# Altium schematic symbol library yu0316-NSC_LDO.SchLib: 2590 symbols (part 43 of 64)
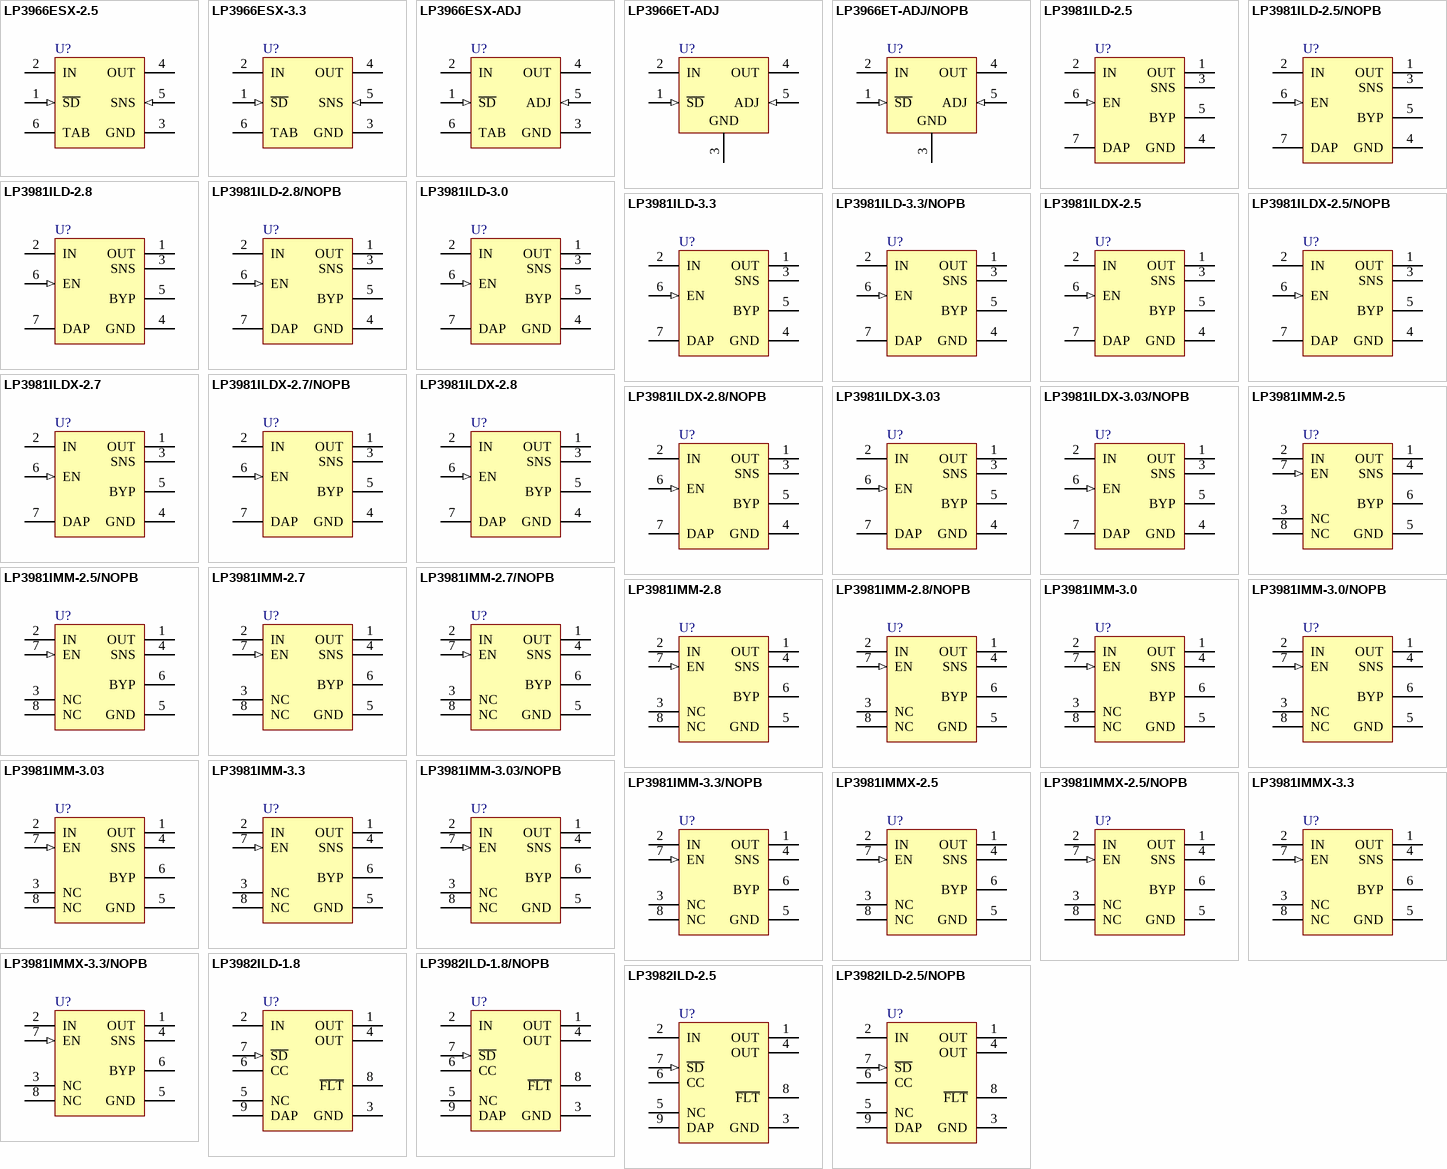
[diagram p107: symbols LP3966ESX-2.5 to LP3982ILD-2.5/NOPB]

## LP3981ILD-3.3/NOPB
designator U?
Micropower, 300mA Ultra Low-Dropout CMOS Voltage Regulator, 6-pin LLP, Pb-Free; PartNumber: LP3981ILD-3.3/NOPB; Manufacturer: National Semiconductor; PackageTopMarking: ZXYTT*LO1XB; PowerWise: N; CompType: LDO IC; Published: 1-Mar-2010; DatasheetVersion: Apr-2005; PackageVersion: revB, Nov-2002; PackageReference: LDC06D; Publisher: Altium Limited; PackageDescription: LLP, Plastic, Dual, 3 x 4 x 0.75mm Body, 6 Lead, 0.8mm Pitch; Supplier 1: Digi-Key; Supplier Part Number 1: LP3981ILD-3.3TR-ND; Supplier 2: Digi-Key; Supplier Part Number 2: LP3981ILD-3.3CT-ND; Supplier 3: Digi-Key; Supplier Part Number 3: LP3981ILD-3.3DKR-ND; Supplier 4: Farnell; Supplier Part Number 4: 1685551; RoHS: Y; PinCount: 6; ComponentLink1Description: LP3981 Datasheet; ComponentLink1URL: http://www.national.com/ds/LP/LP3981.pdf; ComponentLink2Description: LP3981 Web Page; ComponentLink2URL: http://www.national.com/pf/LP/LP3981.html; ComponentLink3Description: LDC06D Package Page; ComponentLink3URL: http://www.national.com/packaging/folders/ldc06d.html
footprint LDC06D (PSON, 6-Leads, Body 3x4 mm, Pitch 0.8mm, NSC Recommended)
pins: 1 OUT (power), 2 IN (power), 3 SNS, 4 GND (power), 5 BYP, 6 EN (in), 7 DAP

## LP3981ILDX-2.5
designator U?
Micropower, 300mA Ultra Low-Dropout CMOS Voltage Regulator, 6-pin LLP; PartNumber: LP3981ILDX-2.5; Manufacturer: National Semiconductor; PackageTopMarking: ZXYTT*LO1UB; PowerWise: N; CompType: LDO IC; Published: 1-Mar-2010; DatasheetVersion: Apr-2005; PackageVersion: revB, Nov-2002; PackageReference: LDC06D; Publisher: Altium Limited; PackageDescription: LLP, Plastic, Dual, 3 x 4 x 0.75mm Body, 6 Lead, 0.8mm Pitch; RoHS: N; PinCount: 6; ComponentLink1Description: LP3981 Datasheet; ComponentLink1URL: http://www.national.com/ds/LP/LP3981.pdf; ComponentLink2Description: LP3981 Web Page; ComponentLink2URL: http://www.national.com/pf/LP/LP3981.html; ComponentLink3Description: LDC06D Package Page; ComponentLink3URL: http://www.national.com/packaging/folders/ldc06d.html
footprint LDC06D (PSON, 6-Leads, Body 3x4 mm, Pitch 0.8mm, NSC Recommended)
pins: 1 OUT (power), 2 IN (power), 3 SNS, 4 GND (power), 5 BYP, 6 EN (in), 7 DAP

## LP3981ILDX-2.5/NOPB
designator U?
Micropower, 300mA Ultra Low-Dropout CMOS Voltage Regulator, 6-pin LLP, Pb-Free; PartNumber: LP3981ILDX-2.5/NOPB; Manufacturer: National Semiconductor; PackageTopMarking: ZXYTT*LO1UB; PowerWise: N; CompType: LDO IC; Published: 1-Mar-2010; DatasheetVersion: Apr-2005; PackageVersion: revB, Nov-2002; PackageReference: LDC06D; Publisher: Altium Limited; PackageDescription: LLP, Plastic, Dual, 3 x 4 x 0.75mm Body, 6 Lead, 0.8mm Pitch; Supplier 1: Digi-Key; Supplier Part Number 1: LP3981ILDX-2.5-ND; RoHS: Y; PinCount: 6; ComponentLink1Description: LP3981 Datasheet; ComponentLink1URL: http://www.national.com/ds/LP/LP3981.pdf; ComponentLink2Description: LP3981 Web Page; ComponentLink2URL: http://www.national.com/pf/LP/LP3981.html; ComponentLink3Description: LDC06D Package Page; ComponentLink3URL: http://www.national.com/packaging/folders/ldc06d.html
footprint LDC06D (PSON, 6-Leads, Body 3x4 mm, Pitch 0.8mm, NSC Recommended)
pins: 1 OUT (power), 2 IN (power), 3 SNS, 4 GND (power), 5 BYP, 6 EN (in), 7 DAP

## LP3981ILDX-2.7
designator U?
Micropower, 300mA Ultra Low-Dropout CMOS Voltage Regulator, 6-pin LLP; PartNumber: LP3981ILDX-2.7; Manufacturer: National Semiconductor; PackageTopMarking: ZXYTT*LO1VB; PowerWise: N; CompType: LDO IC; Published: 1-Mar-2010; DatasheetVersion: Apr-2005; PackageVersion: revB, Nov-2002; PackageReference: LDC06D; Publisher: Altium Limited; PackageDescription: LLP, Plastic, Dual, 3 x 4 x 0.75mm Body, 6 Lead, 0.8mm Pitch; RoHS: N; PinCount: 6; ComponentLink1Description: LP3981 Datasheet; ComponentLink1URL: http://www.national.com/ds/LP/LP3981.pdf; ComponentLink2Description: LP3981 Web Page; ComponentLink2URL: http://www.national.com/pf/LP/LP3981.html; ComponentLink3Description: LDC06D Package Page; ComponentLink3URL: http://www.national.com/packaging/folders/ldc06d.html
footprint LDC06D (PSON, 6-Leads, Body 3x4 mm, Pitch 0.8mm, NSC Recommended)
pins: 1 OUT (power), 2 IN (power), 3 SNS, 4 GND (power), 5 BYP, 6 EN (in), 7 DAP

## LP3981ILDX-2.7/NOPB
designator U?
Micropower, 300mA Ultra Low-Dropout CMOS Voltage Regulator, 6-pin LLP, Pb-Free; PartNumber: LP3981ILDX-2.7/NOPB; Manufacturer: National Semiconductor; PackageTopMarking: ZXYTT*LO1VB; PowerWise: N; CompType: LDO IC; Published: 1-Mar-2010; DatasheetVersion: Apr-2005; PackageVersion: revB, Nov-2002; PackageReference: LDC06D; Publisher: Altium Limited; PackageDescription: LLP, Plastic, Dual, 3 x 4 x 0.75mm Body, 6 Lead, 0.8mm Pitch; Supplier 1: Digi-Key; Supplier Part Number 1: LP3981ILDX-2.7-ND; RoHS: Y; PinCount: 6; ComponentLink1Description: LP3981 Datasheet; ComponentLink1URL: http://www.national.com/ds/LP/LP3981.pdf; ComponentLink2Description: LP3981 Web Page; ComponentLink2URL: http://www.national.com/pf/LP/LP3981.html; ComponentLink3Description: LDC06D Package Page; ComponentLink3URL: http://www.national.com/packaging/folders/ldc06d.html
footprint LDC06D (PSON, 6-Leads, Body 3x4 mm, Pitch 0.8mm, NSC Recommended)
pins: 1 OUT (power), 2 IN (power), 3 SNS, 4 GND (power), 5 BYP, 6 EN (in), 7 DAP

## LP3981ILDX-2.8
designator U?
Micropower, 300mA Ultra Low-Dropout CMOS Voltage Regulator, 6-pin LLP; PartNumber: LP3981ILDX-2.8; Manufacturer: National Semiconductor; PackageTopMarking: ZXYTT*L01ZB; PowerWise: N; CompType: LDO IC; Published: 1-Mar-2010; DatasheetVersion: Apr-2005; PackageVersion: revB, Nov-2002; PackageReference: LDC06D; Publisher: Altium Limited; PackageDescription: LLP, Plastic, Dual, 3 x 4 x 0.75mm Body, 6 Lead, 0.8mm Pitch; RoHS: N; PinCount: 6; ComponentLink1Description: LP3981 Datasheet; ComponentLink1URL: http://www.national.com/ds/LP/LP3981.pdf; ComponentLink2Description: LP3981 Web Page; ComponentLink2URL: http://www.national.com/pf/LP/LP3981.html; ComponentLink3Description: LDC06D Package Page; ComponentLink3URL: http://www.national.com/packaging/folders/ldc06d.html
footprint LDC06D (PSON, 6-Leads, Body 3x4 mm, Pitch 0.8mm, NSC Recommended)
pins: 1 OUT (power), 2 IN (power), 3 SNS, 4 GND (power), 5 BYP, 6 EN (in), 7 DAP

## LP3981ILDX-2.8/NOPB
designator U?
Micropower, 300mA Ultra Low-Dropout CMOS Voltage Regulator, 6-pin LLP, Pb-Free; PartNumber: LP3981ILDX-2.8/NOPB; Manufacturer: National Semiconductor; PackageTopMarking: ZXYTT*L01ZB; PowerWise: N; CompType: LDO IC; Published: 1-Mar-2010; DatasheetVersion: Apr-2005; PackageVersion: revB, Nov-2002; PackageReference: LDC06D; Publisher: Altium Limited; PackageDescription: LLP, Plastic, Dual, 3 x 4 x 0.75mm Body, 6 Lead, 0.8mm Pitch; Supplier 1: Digi-Key; Supplier Part Number 1: LP3981ILDX-2.8-ND; RoHS: Y; PinCount: 6; ComponentLink1Description: LP3981 Datasheet; ComponentLink1URL: http://www.national.com/ds/LP/LP3981.pdf; ComponentLink2Description: LP3981 Web Page; ComponentLink2URL: http://www.national.com/pf/LP/LP3981.html; ComponentLink3Description: LDC06D Package Page; ComponentLink3URL: http://www.national.com/packaging/folders/ldc06d.html
footprint LDC06D (PSON, 6-Leads, Body 3x4 mm, Pitch 0.8mm, NSC Recommended)
pins: 1 OUT (power), 2 IN (power), 3 SNS, 4 GND (power), 5 BYP, 6 EN (in), 7 DAP

## LP3981ILDX-3.03
designator U?
Micropower, 300mA Ultra Low-Dropout CMOS Voltage Regulator, 6-pin LLP; PartNumber: LP3981ILDX-3.03; Manufacturer: National Semiconductor; PackageTopMarking: ZXYTT*LO1YB; PowerWise: N; CompType: LDO IC; Published: 29-May-2009; DatasheetVersion: Apr-2005; PackageVersion: revB, Nov-2002; PackageReference: LDC06D; Publisher: Altium Limited; PackageDescription: LLP, Plastic, Dual, 3 x 4 x 0.75mm Body, 6 Lead, 0.8mm Pitch; RoHS: Y; PinCount: 6; ComponentLink1Description: LP3981 Datasheet; ComponentLink1URL: http://www.national.com/ds/LP/LP3981.pdf; ComponentLink2Description: LP3981 Web Page; ComponentLink2URL: http://www.national.com/pf/LP/LP3981.html; ComponentLink3Description: LDC06D Package Page; ComponentLink3URL: http://www.national.com/packaging/folders/ldc06d.html
footprint LDC06D (PSON, 6-Leads, Body 3x4 mm, Pitch 0.8mm, NSC Recommended)
pins: 1 OUT (power), 2 IN (power), 3 SNS, 4 GND (power), 5 BYP, 6 EN (in), 7 DAP

## LP3981ILDX-3.03/NOPB
designator U?
Micropower, 300mA Ultra Low-Dropout CMOS Voltage Regulator, 6-pin LLP, Pb-Free; PartNumber: LP3981ILDX-3.03/NOPB; Manufacturer: National Semiconductor; PackageTopMarking: ZXYTT*LO1YB; PowerWise: N; CompType: LDO IC; Published: 1-Mar-2010; DatasheetVersion: Apr-2005; PackageVersion: revB, Nov-2002; PackageReference: LDC06D; Publisher: Altium Limited; PackageDescription: LLP, Plastic, Dual, 3 x 4 x 0.75mm Body, 6 Lead, 0.8mm Pitch; Supplier 1: Digi-Key; Supplier Part Number 1: LP3981ILDX-3.03-ND; RoHS: Y; PinCount: 6; ComponentLink1Description: LP3981 Datasheet; ComponentLink1URL: http://www.national.com/ds/LP/LP3981.pdf; ComponentLink2Description: LP3981 Web Page; ComponentLink2URL: http://www.national.com/pf/LP/LP3981.html; ComponentLink3Description: LDC06D Package Page; ComponentLink3URL: http://www.national.com/packaging/folders/ldc06d.html
footprint LDC06D (PSON, 6-Leads, Body 3x4 mm, Pitch 0.8mm, NSC Recommended)
pins: 1 OUT (power), 2 IN (power), 3 SNS, 4 GND (power), 5 BYP, 6 EN (in), 7 DAP

## LP3981IMM-2.5
designator U?
Micropower, 300mA Ultra Low-Dropout CMOS Voltage Regulator, 8-pin Mini SOIC; PartNumber: LP3981IMM-2.5; Manufacturer: National Semiconductor; PackageTopMarking: ZXTT*LFKB; PowerWise: N; CompType: LDO IC; Published: 4-Dec-2008; DatasheetVersion: Apr-2005; PackageVersion: revF, Apr-2008; PackageReference: MUA08A; Publisher: Altium Limited; PackageDescription: MINI SOIC, .118 x .118 x .034in, 8 Lead, .0256in Pitch; RoHS: N; PinCount: 8; Code_JEDEC: MO-187-AA; ComponentLink1Description: LP3981 Datasheet; ComponentLink1URL: http://www.national.com/ds/LP/LP3981.pdf; ComponentLink2Description: LP3981 Web Page; ComponentLink2URL: http://www.national.com/pf/LP/LP3981.html; ComponentLink3Description: MUA08A Package Page; ComponentLink3URL: http://www.national.com/packaging/folders/mua08a.html
footprint MUA08A_N (TSOP, 8-Leads, Body 3x3mm, Pitch 0.65mm, IPC Medium Density)
footprint MUA08A_L (TSOP, 8-Leads, Body 3x3mm, Pitch 0.65mm, IPC High Density)
footprint MUA08A_M (TSOP, 8-Leads, Body 3x3mm, Pitch 0.65mm, IPC Low Density)
pins: 1 OUT (power), 2 IN (power), 3 NC, 4 SNS, 5 GND (power), 6 BYP, 7 EN (in), 8 NC

## LP3981IMM-2.5/NOPB
designator U?
Micropower, 300mA Ultra Low-Dropout CMOS Voltage Regulator, 8-pin Mini SOIC, Pb-Free; PartNumber: LP3981IMM-2.5/NOPB; Manufacturer: National Semiconductor; PackageTopMarking: ZXTT*LFKB; PowerWise: N; CompType: LDO IC; Published: 1-Mar-2010; DatasheetVersion: Apr-2005; PackageVersion: revF, Apr-2008; PackageReference: MUA08A; Publisher: Altium Limited; PackageDescription: MINI SOIC, .118 x .118 x .034in, 8 Lead, .0256in Pitch; Supplier 1: Digi-Key; Supplier Part Number 1: LP3981IMM-2.5TR-ND; Supplier 2: Digi-Key; Supplier Part Number 2: LP3981IMM-2.5CT-ND; Supplier 3: Digi-Key; Supplier Part Number 3: LP3981IMM-2.5DKR-ND; Supplier 4: Farnell; Supplier Part Number 4: 1685562; RoHS: Y; PinCount: 8; Code_JEDEC: MO-187-AA; ComponentLink1Description: LP3981 Datasheet; ComponentLink1URL: http://www.national.com/ds/LP/LP3981.pdf; ComponentLink2Description: LP3981 Web Page; ComponentLink2URL: http://www.national.com/pf/LP/LP3981.html; ComponentLink3Description: MUA08A Package Page; ComponentLink3URL: http://www.national.com/packaging/folders/mua08a.html
footprint MUA08A_N (TSOP, 8-Leads, Body 3x3mm, Pitch 0.65mm, IPC Medium Density)
footprint MUA08A_L (TSOP, 8-Leads, Body 3x3mm, Pitch 0.65mm, IPC High Density)
footprint MUA08A_M (TSOP, 8-Leads, Body 3x3mm, Pitch 0.65mm, IPC Low Density)
pins: 1 OUT (power), 2 IN (power), 3 NC, 4 SNS, 5 GND (power), 6 BYP, 7 EN (in), 8 NC

## LP3981IMM-2.7
designator U?
Micropower, 300mA Ultra Low-Dropout CMOS Voltage Regulator, 8-pin Mini SOIC; PartNumber: LP3981IMM-2.7; Manufacturer: National Semiconductor; PackageTopMarking: ZXTT*LFLB; PowerWise: N; CompType: LDO IC; Published: 4-Dec-2008; DatasheetVersion: Apr-2005; PackageVersion: revF, Apr-2008; PackageReference: MUA08A; Publisher: Altium Limited; PackageDescription: MINI SOIC, .118 x .118 x .034in, 8 Lead, .0256in Pitch; RoHS: N; PinCount: 8; Code_JEDEC: MO-187-AA; ComponentLink1Description: LP3981 Datasheet; ComponentLink1URL: http://www.national.com/ds/LP/LP3981.pdf; ComponentLink2Description: LP3981 Web Page; ComponentLink2URL: http://www.national.com/pf/LP/LP3981.html; ComponentLink3Description: MUA08A Package Page; ComponentLink3URL: http://www.national.com/packaging/folders/mua08a.html
footprint MUA08A_N (TSOP, 8-Leads, Body 3x3mm, Pitch 0.65mm, IPC Medium Density)
footprint MUA08A_L (TSOP, 8-Leads, Body 3x3mm, Pitch 0.65mm, IPC High Density)
footprint MUA08A_M (TSOP, 8-Leads, Body 3x3mm, Pitch 0.65mm, IPC Low Density)
pins: 1 OUT (power), 2 IN (power), 3 NC, 4 SNS, 5 GND (power), 6 BYP, 7 EN (in), 8 NC

## LP3981IMM-2.7/NOPB
designator U?
Micropower, 300mA Ultra Low-Dropout CMOS Voltage Regulator, 8-pin Mini SOIC, Pb-Free; PartNumber: LP3981IMM-2.7/NOPB; Manufacturer: National Semiconductor; PackageTopMarking: ZXTT*LFLB; PowerWise: N; CompType: LDO IC; Published: 1-Mar-2010; DatasheetVersion: Apr-2005; PackageVersion: revF, Apr-2008; PackageReference: MUA08A; Publisher: Altium Limited; PackageDescription: MINI SOIC, .118 x .118 x .034in, 8 Lead, .0256in Pitch; Supplier 1: Digi-Key; Supplier Part Number 1: LP3981IMM-2.7TR-ND; Supplier 2: Digi-Key; Supplier Part Number 2: LP3981IMM-2.7CT-ND; Supplier 3: Digi-Key; Supplier Part Number 3: LP3981IMM-2.7DKR-ND; RoHS: Y; PinCount: 8; Code_JEDEC: MO-187-AA; ComponentLink1Description: LP3981 Datasheet; ComponentLink1URL: http://www.national.com/ds/LP/LP3981.pdf; ComponentLink2Description: LP3981 Web Page; ComponentLink2URL: http://www.national.com/pf/LP/LP3981.html; ComponentLink3Description: MUA08A Package Page; ComponentLink3URL: http://www.national.com/packaging/folders/mua08a.html
footprint MUA08A_N (TSOP, 8-Leads, Body 3x3mm, Pitch 0.65mm, IPC Medium Density)
footprint MUA08A_L (TSOP, 8-Leads, Body 3x3mm, Pitch 0.65mm, IPC High Density)
footprint MUA08A_M (TSOP, 8-Leads, Body 3x3mm, Pitch 0.65mm, IPC Low Density)
pins: 1 OUT (power), 2 IN (power), 3 NC, 4 SNS, 5 GND (power), 6 BYP, 7 EN (in), 8 NC

## LP3981IMM-2.8
designator U?
Micropower, 300mA Ultra Low-Dropout CMOS Voltage Regulator, 8-pin Mini SOIC; PartNumber: LP3981IMM-2.8; Manufacturer: National Semiconductor; PackageTopMarking: ZXTT*LFTB; PowerWise: N; CompType: LDO IC; Published: 4-Dec-2008; DatasheetVersion: Apr-2005; PackageVersion: revF, Apr-2008; PackageReference: MUA08A; Publisher: Altium Limited; PackageDescription: MINI SOIC, .118 x .118 x .034in, 8 Lead, .0256in Pitch; RoHS: N; PinCount: 8; Code_JEDEC: MO-187-AA; ComponentLink1Description: LP3981 Datasheet; ComponentLink1URL: http://www.national.com/ds/LP/LP3981.pdf; ComponentLink2Description: LP3981 Web Page; ComponentLink2URL: http://www.national.com/pf/LP/LP3981.html; ComponentLink3Description: MUA08A Package Page; ComponentLink3URL: http://www.national.com/packaging/folders/mua08a.html
footprint MUA08A_N (TSOP, 8-Leads, Body 3x3mm, Pitch 0.65mm, IPC Medium Density)
footprint MUA08A_L (TSOP, 8-Leads, Body 3x3mm, Pitch 0.65mm, IPC High Density)
footprint MUA08A_M (TSOP, 8-Leads, Body 3x3mm, Pitch 0.65mm, IPC Low Density)
pins: 1 OUT (power), 2 IN (power), 3 NC, 4 SNS, 5 GND (power), 6 BYP, 7 EN (in), 8 NC

## LP3981IMM-2.8/NOPB
designator U?
Micropower, 300mA Ultra Low-Dropout CMOS Voltage Regulator, 8-pin Mini SOIC, Pb-Free; PartNumber: LP3981IMM-2.8/NOPB; Manufacturer: National Semiconductor; PackageTopMarking: ZXTT*LFTB; PowerWise: N; CompType: LDO IC; Published: 1-Mar-2010; DatasheetVersion: Apr-2005; PackageVersion: revF, Apr-2008; PackageReference: MUA08A; Publisher: Altium Limited; PackageDescription: MINI SOIC, .118 x .118 x .034in, 8 Lead, .0256in Pitch; Supplier 1: Digi-Key; Supplier Part Number 1: LP3981IMM-2.8TR-ND; Supplier 2: Digi-Key; Supplier Part Number 2: LP3981IMM-2.8CT-ND; RoHS: Y; PinCount: 8; Code_JEDEC: MO-187-AA; ComponentLink1Description: LP3981 Datasheet; ComponentLink1URL: http://www.national.com/ds/LP/LP3981.pdf; ComponentLink2Description: LP3981 Web Page; ComponentLink2URL: http://www.national.com/pf/LP/LP3981.html; ComponentLink3Description: MUA08A Package Page; ComponentLink3URL: http://www.national.com/packaging/folders/mua08a.html
footprint MUA08A_N (TSOP, 8-Leads, Body 3x3mm, Pitch 0.65mm, IPC Medium Density)
footprint MUA08A_L (TSOP, 8-Leads, Body 3x3mm, Pitch 0.65mm, IPC High Density)
footprint MUA08A_M (TSOP, 8-Leads, Body 3x3mm, Pitch 0.65mm, IPC Low Density)
pins: 1 OUT (power), 2 IN (power), 3 NC, 4 SNS, 5 GND (power), 6 BYP, 7 EN (in), 8 NC

## LP3981IMM-3.0
designator U?
Micropower, 300mA Ultra Low-Dropout CMOS Voltage Regulator, 8-pin Mini SOIC; PartNumber: LP3981IMM-3.0; Manufacturer: National Semiconductor; PackageTopMarking: ZXTT*LF3B; PowerWise: N; CompType: LDO IC; Published: 4-Dec-2008; DatasheetVersion: Apr-2005; PackageVersion: revF, Apr-2008; PackageReference: MUA08A; Publisher: Altium Limited; PackageDescription: MINI SOIC, .118 x .118 x .034in, 8 Lead, .0256in Pitch; RoHS: N; PinCount: 8; Code_JEDEC: MO-187-AA; ComponentLink1Description: LP3981 Datasheet; ComponentLink1URL: http://www.national.com/ds/LP/LP3981.pdf; ComponentLink2Description: LP3981 Web Page; ComponentLink2URL: http://www.national.com/pf/LP/LP3981.html; ComponentLink3Description: MUA08A Package Page; ComponentLink3URL: http://www.national.com/packaging/folders/mua08a.html
footprint MUA08A_N (TSOP, 8-Leads, Body 3x3mm, Pitch 0.65mm, IPC Medium Density)
footprint MUA08A_L (TSOP, 8-Leads, Body 3x3mm, Pitch 0.65mm, IPC High Density)
footprint MUA08A_M (TSOP, 8-Leads, Body 3x3mm, Pitch 0.65mm, IPC Low Density)
pins: 1 OUT (power), 2 IN (power), 3 NC, 4 SNS, 5 GND (power), 6 BYP, 7 EN (in), 8 NC

## LP3981IMM-3.0/NOPB
designator U?
Micropower, 300mA Ultra Low-Dropout CMOS Voltage Regulator, 8-pin Mini SOIC, Pb-Free; PartNumber: LP3981IMM-3.0/NOPB; Manufacturer: National Semiconductor; PackageTopMarking: ZXTT*LF3B; PowerWise: N; CompType: LDO IC; Published: 1-Mar-2010; DatasheetVersion: Apr-2005; PackageVersion: revF, Apr-2008; PackageReference: MUA08A; Publisher: Altium Limited; PackageDescription: MINI SOIC, .118 x .118 x .034in, 8 Lead, .0256in Pitch; Supplier 1: Digi-Key; Supplier Part Number 1: LP3981IMM-3.0TR-ND; Supplier 2: Digi-Key; Supplier Part Number 2: LP3981IMM-3.0CT-ND; Supplier 3: Digi-Key; Supplier Part Number 3: LP3981IMM-3.0DKR-ND; Supplier 4: Farnell; Supplier Part Number 4: 1694574; RoHS: Y; PinCount: 8; Code_JEDEC: MO-187-AA; ComponentLink1Description: LP3981 Datasheet; ComponentLink1URL: http://www.national.com/ds/LP/LP3981.pdf; ComponentLink2Description: LP3981 Web Page; ComponentLink2URL: http://www.national.com/pf/LP/LP3981.html; ComponentLink3Description: MUA08A Package Page; ComponentLink3URL: http://www.national.com/packaging/folders/mua08a.html
footprint MUA08A_N (TSOP, 8-Leads, Body 3x3mm, Pitch 0.65mm, IPC Medium Density)
footprint MUA08A_L (TSOP, 8-Leads, Body 3x3mm, Pitch 0.65mm, IPC High Density)
footprint MUA08A_M (TSOP, 8-Leads, Body 3x3mm, Pitch 0.65mm, IPC Low Density)
pins: 1 OUT (power), 2 IN (power), 3 NC, 4 SNS, 5 GND (power), 6 BYP, 7 EN (in), 8 NC

## LP3981IMM-3.03
designator U?
Micropower, 300mA Ultra Low-Dropout CMOS Voltage Regulator, 8-pin Mini SOIC; PartNumber: LP3981IMM-3.03; Manufacturer: National Semiconductor; PackageTopMarking: ZXTT*LFPB; PowerWise: N; CompType: LDO IC; Published: 4-Dec-2008; DatasheetVersion: Apr-2005; PackageVersion: revF, Apr-2008; PackageReference: MUA08A; Publisher: Altium Limited; PackageDescription: MINI SOIC, .118 x .118 x .034in, 8 Lead, .0256in Pitch; RoHS: N; PinCount: 8; Code_JEDEC: MO-187-AA; ComponentLink1Description: LP3981 Datasheet; ComponentLink1URL: http://www.national.com/ds/LP/LP3981.pdf; ComponentLink2Description: LP3981 Web Page; ComponentLink2URL: http://www.national.com/pf/LP/LP3981.html; ComponentLink3Description: MUA08A Package Page; ComponentLink3URL: http://www.national.com/packaging/folders/mua08a.html
footprint MUA08A_N (TSOP, 8-Leads, Body 3x3mm, Pitch 0.65mm, IPC Medium Density)
footprint MUA08A_L (TSOP, 8-Leads, Body 3x3mm, Pitch 0.65mm, IPC High Density)
footprint MUA08A_M (TSOP, 8-Leads, Body 3x3mm, Pitch 0.65mm, IPC Low Density)
pins: 1 OUT (power), 2 IN (power), 3 NC, 4 SNS, 5 GND (power), 6 BYP, 7 EN (in), 8 NC

## LP3981IMM-3.3
designator U?
Micropower, 300mA Ultra Low-Dropout CMOS Voltage Regulator, 8-pin Mini SOIC; PartNumber: LP3981IMM-3.3; Manufacturer: National Semiconductor; PackageTopMarking: ZXTT*LFNB; PowerWise: N; CompType: LDO IC; Published: 4-Dec-2008; DatasheetVersion: Apr-2005; PackageVersion: revF, Apr-2008; PackageReference: MUA08A; Publisher: Altium Limited; PackageDescription: MINI SOIC, .118 x .118 x .034in, 8 Lead, .0256in Pitch; RoHS: N; PinCount: 8; Code_JEDEC: MO-187-AA; ComponentLink1Description: LP3981 Datasheet; ComponentLink1URL: http://www.national.com/ds/LP/LP3981.pdf; ComponentLink2Description: LP3981 Web Page; ComponentLink2URL: http://www.national.com/pf/LP/LP3981.html; ComponentLink3Description: MUA08A Package Page; ComponentLink3URL: http://www.national.com/packaging/folders/mua08a.html
footprint MUA08A_N (TSOP, 8-Leads, Body 3x3mm, Pitch 0.65mm, IPC Medium Density)
footprint MUA08A_L (TSOP, 8-Leads, Body 3x3mm, Pitch 0.65mm, IPC High Density)
footprint MUA08A_M (TSOP, 8-Leads, Body 3x3mm, Pitch 0.65mm, IPC Low Density)
pins: 1 OUT (power), 2 IN (power), 3 NC, 4 SNS, 5 GND (power), 6 BYP, 7 EN (in), 8 NC

## LP3981IMM-3.03/NOPB
designator U?
Micropower, 300mA Ultra Low-Dropout CMOS Voltage Regulator, 8-pin Mini SOIC, Pb-Free; PartNumber: LP3981IMM-3.03/NOPB; Manufacturer: National Semiconductor; PackageTopMarking: ZXTT*LFPB; PowerWise: N; CompType: LDO IC; Published: 1-Mar-2010; DatasheetVersion: Apr-2005; PackageVersion: revF, Apr-2008; PackageReference: MUA08A; Publisher: Altium Limited; PackageDescription: MINI SOIC, .118 x .118 x .034in, 8 Lead, .0256in Pitch; Supplier 1: Digi-Key; Supplier Part Number 1: LP3981IMM-3.03TR-ND; Supplier 2: Digi-Key; Supplier Part Number 2: LP3981IMM-3.03CT-ND; Supplier 3: Digi-Key; Supplier Part Number 3: LP3981IMM-3.03DKR-ND; RoHS: Y; PinCount: 8; Code_JEDEC: MO-187-AA; ComponentLink1Description: LP3981 Datasheet; ComponentLink1URL: http://www.national.com/ds/LP/LP3981.pdf; ComponentLink2Description: LP3981 Web Page; ComponentLink2URL: http://www.national.com/pf/LP/LP3981.html; ComponentLink3Description: MUA08A Package Page; ComponentLink3URL: http://www.national.com/packaging/folders/mua08a.html
footprint MUA08A_N (TSOP, 8-Leads, Body 3x3mm, Pitch 0.65mm, IPC Medium Density)
footprint MUA08A_L (TSOP, 8-Leads, Body 3x3mm, Pitch 0.65mm, IPC High Density)
footprint MUA08A_M (TSOP, 8-Leads, Body 3x3mm, Pitch 0.65mm, IPC Low Density)
pins: 1 OUT (power), 2 IN (power), 3 NC, 4 SNS, 5 GND (power), 6 BYP, 7 EN (in), 8 NC

## LP3981IMM-3.3/NOPB
designator U?
Micropower, 300mA Ultra Low-Dropout CMOS Voltage Regulator, 8-pin Mini SOIC, Pb-Free; PartNumber: LP3981IMM-3.3/NOPB; Manufacturer: National Semiconductor; PackageTopMarking: ZXTT*LFNB; PowerWise: N; CompType: LDO IC; Published: 1-Mar-2010; DatasheetVersion: Apr-2005; PackageVersion: revF, Apr-2008; PackageReference: MUA08A; Publisher: Altium Limited; PackageDescription: MINI SOIC, .118 x .118 x .034in, 8 Lead, .0256in Pitch; Supplier 1: Digi-Key; Supplier Part Number 1: LP3981IMM-3.3TR-ND; Supplier 2: Digi-Key; Supplier Part Number 2: LP3981IMM-3.3CT-ND; Supplier 3: Digi-Key; Supplier Part Number 3: LP3981IMM-3.3DKR-ND; Supplier 4: Farnell; Supplier Part Number 4: 1685563; RoHS: Y; PinCount: 8; Code_JEDEC: MO-187-AA; ComponentLink1Description: LP3981 Datasheet; ComponentLink1URL: http://www.national.com/ds/LP/LP3981.pdf; ComponentLink2Description: LP3981 Web Page; ComponentLink2URL: http://www.national.com/pf/LP/LP3981.html; ComponentLink3Description: MUA08A Package Page; ComponentLink3URL: http://www.national.com/packaging/folders/mua08a.html
footprint MUA08A_N (TSOP, 8-Leads, Body 3x3mm, Pitch 0.65mm, IPC Medium Density)
footprint MUA08A_L (TSOP, 8-Leads, Body 3x3mm, Pitch 0.65mm, IPC High Density)
footprint MUA08A_M (TSOP, 8-Leads, Body 3x3mm, Pitch 0.65mm, IPC Low Density)
pins: 1 OUT (power), 2 IN (power), 3 NC, 4 SNS, 5 GND (power), 6 BYP, 7 EN (in), 8 NC

## LP3981IMMX-2.5
designator U?
Micropower, 300mA Ultra Low-Dropout CMOS Voltage Regulator, 8-pin Mini SOIC; PartNumber: LP3981IMMX-2.5; Manufacturer: National Semiconductor; PackageTopMarking: ZXTT*LFKB; PowerWise: N; CompType: LDO IC; Published: 1-Mar-2010; DatasheetVersion: Apr-2005; PackageVersion: revF, Apr-2008; PackageReference: MUA08A; Publisher: Altium Limited; PackageDescription: MINI SOIC, .118 x .118 x .034in, 8 Lead, .0256in Pitch; RoHS: N; PinCount: 8; Code_JEDEC: MO-187-AA; ComponentLink1Description: LP3981 Datasheet; ComponentLink1URL: http://www.national.com/ds/LP/LP3981.pdf; ComponentLink2Description: LP3981 Web Page; ComponentLink2URL: http://www.national.com/pf/LP/LP3981.html; ComponentLink3Description: MUA08A Package Page; ComponentLink3URL: http://www.national.com/packaging/folders/mua08a.html
footprint MUA08A_N (TSOP, 8-Leads, Body 3x3mm, Pitch 0.65mm, IPC Medium Density)
footprint MUA08A_L (TSOP, 8-Leads, Body 3x3mm, Pitch 0.65mm, IPC High Density)
footprint MUA08A_M (TSOP, 8-Leads, Body 3x3mm, Pitch 0.65mm, IPC Low Density)
pins: 1 OUT (power), 2 IN (power), 3 NC, 4 SNS, 5 GND (power), 6 BYP, 7 EN (in), 8 NC

## LP3981IMMX-2.5/NOPB
designator U?
Micropower, 300mA Ultra Low-Dropout CMOS Voltage Regulator, 8-pin Mini SOIC, Pb-Free; PartNumber: LP3981IMMX-2.5/NOPB; Manufacturer: National Semiconductor; PackageTopMarking: ZXTT*LFKB; PowerWise: N; CompType: LDO IC; Published: 1-Mar-2010; DatasheetVersion: Apr-2005; PackageVersion: revF, Apr-2008; PackageReference: MUA08A; Publisher: Altium Limited; PackageDescription: MINI SOIC, .118 x .118 x .034in, 8 Lead, .0256in Pitch; Supplier 1: Digi-Key; Supplier Part Number 1: LP3981IMMX-2.5-ND; RoHS: Y; PinCount: 8; Code_JEDEC: MO-187-AA; ComponentLink1Description: LP3981 Datasheet; ComponentLink1URL: http://www.national.com/ds/LP/LP3981.pdf; ComponentLink2Description: LP3981 Web Page; ComponentLink2URL: http://www.national.com/pf/LP/LP3981.html; ComponentLink3Description: MUA08A Package Page; ComponentLink3URL: http://www.national.com/packaging/folders/mua08a.html
footprint MUA08A_N (TSOP, 8-Leads, Body 3x3mm, Pitch 0.65mm, IPC Medium Density)
footprint MUA08A_L (TSOP, 8-Leads, Body 3x3mm, Pitch 0.65mm, IPC High Density)
footprint MUA08A_M (TSOP, 8-Leads, Body 3x3mm, Pitch 0.65mm, IPC Low Density)
pins: 1 OUT (power), 2 IN (power), 3 NC, 4 SNS, 5 GND (power), 6 BYP, 7 EN (in), 8 NC

## LP3981IMMX-3.3
designator U?
Micropower, 300mA Ultra Low-Dropout CMOS Voltage Regulator, 8-pin Mini SOIC; PartNumber: LP3981IMMX-3.3; Manufacturer: National Semiconductor; PackageTopMarking: ZXTT*LFNB; PowerWise: N; CompType: LDO IC; Published: 1-Mar-2010; DatasheetVersion: Apr-2005; PackageVersion: revF, Apr-2008; PackageReference: MUA08A; Publisher: Altium Limited; PackageDescription: MINI SOIC, .118 x .118 x .034in, 8 Lead, .0256in Pitch; RoHS: N; PinCount: 8; Code_JEDEC: MO-187-AA; ComponentLink1Description: LP3981 Datasheet; ComponentLink1URL: http://www.national.com/ds/LP/LP3981.pdf; ComponentLink2Description: LP3981 Web Page; ComponentLink2URL: http://www.national.com/pf/LP/LP3981.html; ComponentLink3Description: MUA08A Package Page; ComponentLink3URL: http://www.national.com/packaging/folders/mua08a.html
footprint MUA08A_N (TSOP, 8-Leads, Body 3x3mm, Pitch 0.65mm, IPC Medium Density)
footprint MUA08A_L (TSOP, 8-Leads, Body 3x3mm, Pitch 0.65mm, IPC High Density)
footprint MUA08A_M (TSOP, 8-Leads, Body 3x3mm, Pitch 0.65mm, IPC Low Density)
pins: 1 OUT (power), 2 IN (power), 3 NC, 4 SNS, 5 GND (power), 6 BYP, 7 EN (in), 8 NC

## LP3981IMMX-3.3/NOPB
designator U?
Micropower, 300mA Ultra Low-Dropout CMOS Voltage Regulator, 8-pin Mini SOIC, Pb-Free; PartNumber: LP3981IMMX-3.3/NOPB; Manufacturer: National Semiconductor; PackageTopMarking: ZXTT*LFNB; PowerWise: N; CompType: LDO IC; Published: 1-Mar-2010; DatasheetVersion: Apr-2005; PackageVersion: revF, Apr-2008; PackageReference: MUA08A; Publisher: Altium Limited; PackageDescription: MINI SOIC, .118 x .118 x .034in, 8 Lead, .0256in Pitch; Supplier 1: Digi-Key; Supplier Part Number 1: LP3981IMMX-3.3-ND; RoHS: Y; PinCount: 8; Code_JEDEC: MO-187-AA; ComponentLink1Description: LP3981 Datasheet; ComponentLink1URL: http://www.national.com/ds/LP/LP3981.pdf; ComponentLink2Description: LP3981 Web Page; ComponentLink2URL: http://www.national.com/pf/LP/LP3981.html; ComponentLink3Description: MUA08A Package Page; ComponentLink3URL: http://www.national.com/packaging/folders/mua08a.html
footprint MUA08A_N (TSOP, 8-Leads, Body 3x3mm, Pitch 0.65mm, IPC Medium Density)
footprint MUA08A_L (TSOP, 8-Leads, Body 3x3mm, Pitch 0.65mm, IPC High Density)
footprint MUA08A_M (TSOP, 8-Leads, Body 3x3mm, Pitch 0.65mm, IPC Low Density)
pins: 1 OUT (power), 2 IN (power), 3 NC, 4 SNS, 5 GND (power), 6 BYP, 7 EN (in), 8 NC

## LP3982ILD-1.8
designator U?
Micropower, Ultra Low-Dropout, Low-Noise, 300mA CMOS Regulator, 8-pin LLP; PartNumber: LP3982ILD-1.8; Manufacturer: National Semiconductor; PackageTopMarking: XYTT*LNB; PowerWise: N; CompType: LDO IC; Published: 4-Dec-2008; DatasheetVersion: Mar-2006; PackageVersion: revB, Jun-2003; PackageReference: LDA08C; Publisher: Altium Limited; PackageDescription: LLP, Plastic, Dual, 2.5 x 3 x 0.75mm, 8 Lead, 0.5mm Pitch; RoHS: N; PinCount: 8; Code_JEDEC: MO-229-WDED; ComponentLink1Description: LP3982 Datasheet; ComponentLink1URL: http://www.national.com/ds/LP/LP3982.pdf; ComponentLink2Description: LP3982 Web Page; ComponentLink2URL: http://www.national.com/pf/LP/LP3982.html; ComponentLink3Description: LDA08C Package Page; ComponentLink3URL: http://www.national.com/packaging/folders/lda08c.html
footprint LDA08C (PSON, 8-Leads, Body 2.5x3mm, Pitch 0.5mm, NSC Recommended)
pins: 1 OUT (power), 2 IN (power), 3 GND (power), 4 OUT (power), 5 NC, 6 CC, 7 ~{SD} (in), 8 ~{FLT} (oc), 9 DAP (power)

## LP3982ILD-1.8/NOPB
designator U?
Micropower, Ultra Low-Dropout, Low-Noise, 300mA CMOS Regulator, 8-pin LLP, Pb-Free; PartNumber: LP3982ILD-1.8/NOPB; Manufacturer: National Semiconductor; PackageTopMarking: XYTT*LNB; PowerWise: N; CompType: LDO IC; Published: 1-Mar-2010; DatasheetVersion: Mar-2006; PackageVersion: revB, Jun-2003; PackageReference: LDA08C; Publisher: Altium Limited; PackageDescription: LLP, Plastic, Dual, 2.5 x 3 x 0.75mm, 8 Lead, 0.5mm Pitch; Supplier 1: Digi-Key; Supplier Part Number 1: LP3982ILD-1.8TR-ND; Supplier 2: Digi-Key; Supplier Part Number 2: LP3982ILD-1.8CT-ND; Supplier 3: Digi-Key; Supplier Part Number 3: LP3982ILD-1.8DKR-ND; Supplier 4: Farnell; Supplier Part Number 4: 1694575; RoHS: Y; PinCount: 8; Code_JEDEC: MO-229-WDED; ComponentLink1Description: LP3982 Datasheet; ComponentLink1URL: http://www.national.com/ds/LP/LP3982.pdf; ComponentLink2Description: LP3982 Web Page; ComponentLink2URL: http://www.national.com/pf/LP/LP3982.html; ComponentLink3Description: LDA08C Package Page; ComponentLink3URL: http://www.national.com/packaging/folders/lda08c.html
footprint LDA08C (PSON, 8-Leads, Body 2.5x3mm, Pitch 0.5mm, NSC Recommended)
pins: 1 OUT (power), 2 IN (power), 3 GND (power), 4 OUT (power), 5 NC, 6 CC, 7 ~{SD} (in), 8 ~{FLT} (oc), 9 DAP (power)

## LP3982ILD-2.5
designator U?
Micropower, Ultra Low-Dropout, Low-Noise, 300mA CMOS Regulator, 8-pin LLP; PartNumber: LP3982ILD-2.5; Manufacturer: National Semiconductor; PackageTopMarking: XYTT*LPB; PowerWise: N; CompType: LDO IC; Published: 4-Dec-2008; DatasheetVersion: Mar-2006; PackageVersion: revB, Jun-2003; PackageReference: LDA08C; Publisher: Altium Limited; PackageDescription: LLP, Plastic, Dual, 2.5 x 3 x 0.75mm, 8 Lead, 0.5mm Pitch; RoHS: N; PinCount: 8; Code_JEDEC: MO-229-WDED; ComponentLink1Description: LP3982 Datasheet; ComponentLink1URL: http://www.national.com/ds/LP/LP3982.pdf; ComponentLink2Description: LP3982 Web Page; ComponentLink2URL: http://www.national.com/pf/LP/LP3982.html; ComponentLink3Description: LDA08C Package Page; ComponentLink3URL: http://www.national.com/packaging/folders/lda08c.html
footprint LDA08C (PSON, 8-Leads, Body 2.5x3mm, Pitch 0.5mm, NSC Recommended)
pins: 1 OUT (power), 2 IN (power), 3 GND (power), 4 OUT (power), 5 NC, 6 CC, 7 ~{SD} (in), 8 ~{FLT} (oc), 9 DAP (power)

## LP3982ILD-2.5/NOPB
designator U?
Micropower, Ultra Low-Dropout, Low-Noise, 300mA CMOS Regulator, 8-pin LLP, Pb-Free; PartNumber: LP3982ILD-2.5/NOPB; Manufacturer: National Semiconductor; PackageTopMarking: XYTT*LPB; PowerWise: N; CompType: LDO IC; Published: 1-Mar-2010; DatasheetVersion: Mar-2006; PackageVersion: revB, Jun-2003; PackageReference: LDA08C; Publisher: Altium Limited; PackageDescription: LLP, Plastic, Dual, 2.5 x 3 x 0.75mm, 8 Lead, 0.5mm Pitch; Supplier 1: Digi-Key; Supplier Part Number 1: LP3982ILD-2.5TR-ND; Supplier 2: Digi-Key; Supplier Part Number 2: LP3982ILD-2.5CT-ND; Supplier 3: Digi-Key; Supplier Part Number 3: LP3982ILD-2.5DKR-ND; RoHS: Y; PinCount: 8; Code_JEDEC: MO-229-WDED; ComponentLink1Description: LP3982 Datasheet; ComponentLink1URL: http://www.national.com/ds/LP/LP3982.pdf; ComponentLink2Description: LP3982 Web Page; ComponentLink2URL: http://www.national.com/pf/LP/LP3982.html; ComponentLink3Description: LDA08C Package Page; ComponentLink3URL: http://www.national.com/packaging/folders/lda08c.html
footprint LDA08C (PSON, 8-Leads, Body 2.5x3mm, Pitch 0.5mm, NSC Recommended)
pins: 1 OUT (power), 2 IN (power), 3 GND (power), 4 OUT (power), 5 NC, 6 CC, 7 ~{SD} (in), 8 ~{FLT} (oc), 9 DAP (power)

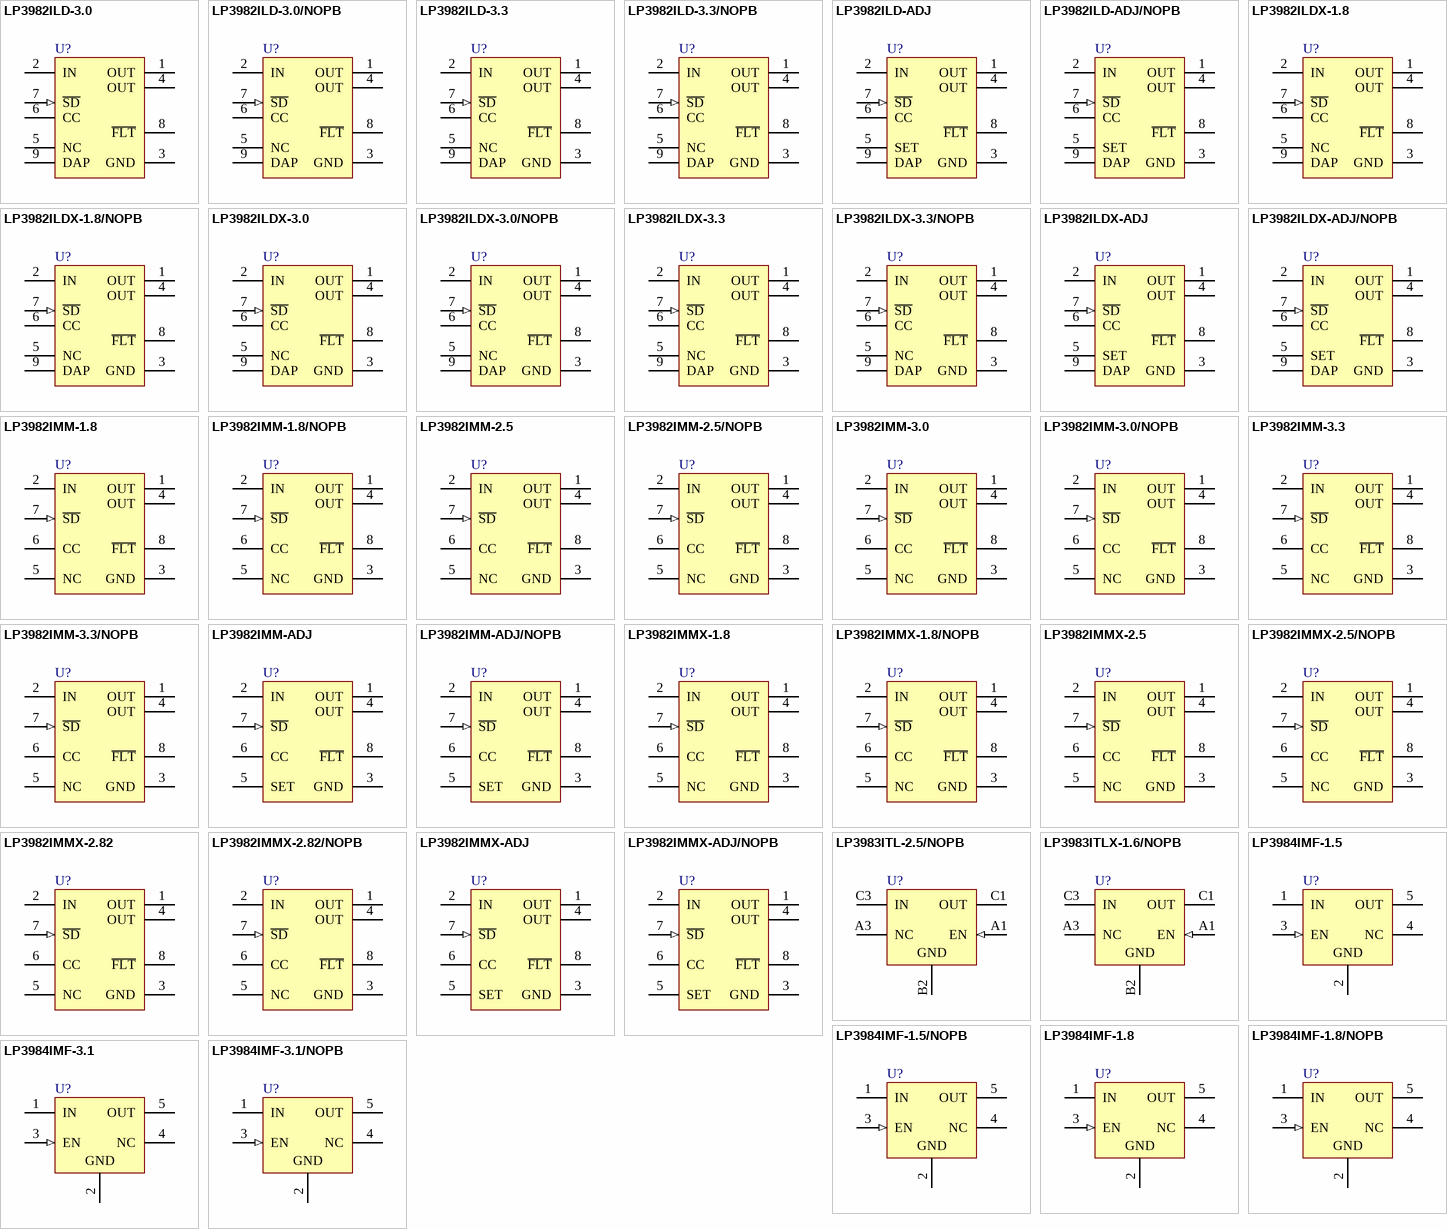
[diagram p44: symbols LP3982ILD-3.0 to LP3984IMF-3.1/NOPB]

## LP3982ILD-3.0
designator U?
Micropower, Ultra Low-Dropout, Low-Noise, 300mA CMOS Regulator, 8-pin LLP; PartNumber: LP3982ILD-3.0; Manufacturer: National Semiconductor; PackageTopMarking: XYTT*LTB; PowerWise: N; CompType: LDO IC; Published: 4-Dec-2008; DatasheetVersion: Mar-2006; PackageVersion: revB, Jun-2003; PackageReference: LDA08C; Publisher: Altium Limited; PackageDescription: LLP, Plastic, Dual, 2.5 x 3 x 0.75mm, 8 Lead, 0.5mm Pitch; RoHS: N; PinCount: 8; Code_JEDEC: MO-229-WDED; ComponentLink1Description: LP3982 Datasheet; ComponentLink1URL: http://www.national.com/ds/LP/LP3982.pdf; ComponentLink2Description: LP3982 Web Page; ComponentLink2URL: http://www.national.com/pf/LP/LP3982.html; ComponentLink3Description: LDA08C Package Page; ComponentLink3URL: http://www.national.com/packaging/folders/lda08c.html
footprint LDA08C (PSON, 8-Leads, Body 2.5x3mm, Pitch 0.5mm, NSC Recommended)
pins: 1 OUT (power), 2 IN (power), 3 GND (power), 4 OUT (power), 5 NC, 6 CC, 7 ~{SD} (in), 8 ~{FLT} (oc), 9 DAP (power)

## LP3982ILD-3.0/NOPB
designator U?
Micropower, Ultra Low-Dropout, Low-Noise, 300mA CMOS Regulator, 8-pin LLP, Pb-Free; PartNumber: LP3982ILD-3.0/NOPB; Manufacturer: National Semiconductor; PackageTopMarking: XYTT*LTB; PowerWise: N; CompType: LDO IC; Published: 1-Mar-2010; DatasheetVersion: Mar-2006; PackageVersion: revB, Jun-2003; PackageReference: LDA08C; Publisher: Altium Limited; PackageDescription: LLP, Plastic, Dual, 2.5 x 3 x 0.75mm, 8 Lead, 0.5mm Pitch; Supplier 1: Digi-Key; Supplier Part Number 1: LP3982ILD-3.0TR-ND; Supplier 2: Digi-Key; Supplier Part Number 2: LP3982ILD-3.0CT-ND; Supplier 3: Digi-Key; Supplier Part Number 3: LP3982ILD-3.0DKR-ND; RoHS: Y; PinCount: 8; Code_JEDEC: MO-229-WDED; ComponentLink1Description: LP3982 Datasheet; ComponentLink1URL: http://www.national.com/ds/LP/LP3982.pdf; ComponentLink2Description: LP3982 Web Page; ComponentLink2URL: http://www.national.com/pf/LP/LP3982.html; ComponentLink3Description: LDA08C Package Page; ComponentLink3URL: http://www.national.com/packaging/folders/lda08c.html
footprint LDA08C (PSON, 8-Leads, Body 2.5x3mm, Pitch 0.5mm, NSC Recommended)
pins: 1 OUT (power), 2 IN (power), 3 GND (power), 4 OUT (power), 5 NC, 6 CC, 7 ~{SD} (in), 8 ~{FLT} (oc), 9 DAP (power)

## LP3982ILD-3.3
designator U?
Micropower, Ultra Low-Dropout, Low-Noise, 300mA CMOS Regulator, 8-pin LLP; PartNumber: LP3982ILD-3.3; Manufacturer: National Semiconductor; PackageTopMarking: XYTT*LUB; PowerWise: N; CompType: LDO IC; Published: 4-Dec-2008; DatasheetVersion: Mar-2006; PackageVersion: revB, Jun-2003; PackageReference: LDA08C; Publisher: Altium Limited; PackageDescription: LLP, Plastic, Dual, 2.5 x 3 x 0.75mm, 8 Lead, 0.5mm Pitch; RoHS: N; PinCount: 8; Code_JEDEC: MO-229-WDED; ComponentLink1Description: LP3982 Datasheet; ComponentLink1URL: http://www.national.com/ds/LP/LP3982.pdf; ComponentLink2Description: LP3982 Web Page; ComponentLink2URL: http://www.national.com/pf/LP/LP3982.html; ComponentLink3Description: LDA08C Package Page; ComponentLink3URL: http://www.national.com/packaging/folders/lda08c.html
footprint LDA08C (PSON, 8-Leads, Body 2.5x3mm, Pitch 0.5mm, NSC Recommended)
pins: 1 OUT (power), 2 IN (power), 3 GND (power), 4 OUT (power), 5 NC, 6 CC, 7 ~{SD} (in), 8 ~{FLT} (oc), 9 DAP (power)

## LP3982ILD-3.3/NOPB
designator U?
Micropower, Ultra Low-Dropout, Low-Noise, 300mA CMOS Regulator, 8-pin LLP, Pb-Free; PartNumber: LP3982ILD-3.3/NOPB; Manufacturer: National Semiconductor; PackageTopMarking: XYTT*LUB; PowerWise: N; CompType: LDO IC; Published: 1-Mar-2010; DatasheetVersion: Mar-2006; PackageVersion: revB, Jun-2003; PackageReference: LDA08C; Publisher: Altium Limited; PackageDescription: LLP, Plastic, Dual, 2.5 x 3 x 0.75mm, 8 Lead, 0.5mm Pitch; Supplier 1: Digi-Key; Supplier Part Number 1: LP3982ILD-3.3TR-ND; Supplier 2: Digi-Key; Supplier Part Number 2: LP3982ILD-3.3CT-ND; Supplier 3: Digi-Key; Supplier Part Number 3: LP3982ILD-3.3DKR-ND; Supplier 4: Farnell; Supplier Part Number 4: 1685737; RoHS: Y; PinCount: 8; Code_JEDEC: MO-229-WDED; ComponentLink1Description: LP3982 Datasheet; ComponentLink1URL: http://www.national.com/ds/LP/LP3982.pdf; ComponentLink2Description: LP3982 Web Page; ComponentLink2URL: http://www.national.com/pf/LP/LP3982.html; ComponentLink3Description: LDA08C Package Page; ComponentLink3URL: http://www.national.com/packaging/folders/lda08c.html
footprint LDA08C (PSON, 8-Leads, Body 2.5x3mm, Pitch 0.5mm, NSC Recommended)
pins: 1 OUT (power), 2 IN (power), 3 GND (power), 4 OUT (power), 5 NC, 6 CC, 7 ~{SD} (in), 8 ~{FLT} (oc), 9 DAP (power)

## LP3982ILD-ADJ
designator U?
Micropower, Ultra Low-Dropout, Low-Noise, 300mA CMOS Regulator, 8-pin LLP; PartNumber: LP3982ILD-ADJ; Manufacturer: National Semiconductor; PackageTopMarking: XYTT*LVB; PowerWise: N; CompType: LDO IC; Published: 4-Dec-2008; DatasheetVersion: Mar-2006; PackageVersion: revB, Jun-2003; PackageReference: LDA08C; Publisher: Altium Limited; PackageDescription: LLP, Plastic, Dual, 2.5 x 3 x 0.75mm, 8 Lead, 0.5mm Pitch; RoHS: N; PinCount: 8; Code_JEDEC: MO-229-WDED; ComponentLink1Description: LP3982 Datasheet; ComponentLink1URL: http://www.national.com/ds/LP/LP3982.pdf; ComponentLink2Description: LP3982 Web Page; ComponentLink2URL: http://www.national.com/pf/LP/LP3982.html; ComponentLink3Description: LDA08C Package Page; ComponentLink3URL: http://www.national.com/packaging/folders/lda08c.html
footprint LDA08C (PSON, 8-Leads, Body 2.5x3mm, Pitch 0.5mm, NSC Recommended)
pins: 1 OUT (power), 2 IN (power), 3 GND (power), 4 OUT (power), 5 SET, 6 CC, 7 ~{SD} (in), 8 ~{FLT} (oc), 9 DAP (power)

## LP3982ILD-ADJ/NOPB
designator U?
Micropower, Ultra Low-Dropout, Low-Noise, 300mA CMOS Regulator, 8-pin LLP, Pb-Free; PartNumber: LP3982ILD-ADJ/NOPB; Manufacturer: National Semiconductor; PackageTopMarking: XYTT*LVB; PowerWise: N; CompType: LDO IC; Published: 1-Mar-2010; DatasheetVersion: Mar-2006; PackageVersion: revB, Jun-2003; PackageReference: LDA08C; Publisher: Altium Limited; PackageDescription: LLP, Plastic, Dual, 2.5 x 3 x 0.75mm, 8 Lead, 0.5mm Pitch; Supplier 1: Digi-Key; Supplier Part Number 1: LP3982ILD-ADJTR-ND; Supplier 2: Digi-Key; Supplier Part Number 2: LP3982ILD-ADJCT-ND; Supplier 3: Digi-Key; Supplier Part Number 3: LP3982ILD-ADJDKR-ND; Supplier 4: Farnell; Supplier Part Number 4: 1685559; RoHS: Y; PinCount: 8; Code_JEDEC: MO-229-WDED; ComponentLink1Description: LP3982 Datasheet; ComponentLink1URL: http://www.national.com/ds/LP/LP3982.pdf; ComponentLink2Description: LP3982 Web Page; ComponentLink2URL: http://www.national.com/pf/LP/LP3982.html; ComponentLink3Description: LDA08C Package Page; ComponentLink3URL: http://www.national.com/packaging/folders/lda08c.html
footprint LDA08C (PSON, 8-Leads, Body 2.5x3mm, Pitch 0.5mm, NSC Recommended)
pins: 1 OUT (power), 2 IN (power), 3 GND (power), 4 OUT (power), 5 SET, 6 CC, 7 ~{SD} (in), 8 ~{FLT} (oc), 9 DAP (power)

## LP3982ILDX-1.8
designator U?
Micropower, Ultra Low-Dropout, Low-Noise, 300mA CMOS Regulator, 8-pin LLP; PartNumber: LP3982ILDX-1.8; Manufacturer: National Semiconductor; PackageTopMarking: XYTT*LNB; PowerWise: N; CompType: LDO IC; Published: 1-Mar-2010; DatasheetVersion: Mar-2006; PackageVersion: revB, Jun-2003; PackageReference: LDA08C; Publisher: Altium Limited; PackageDescription: LLP, Plastic, Dual, 2.5 x 3 x 0.75mm, 8 Lead, 0.5mm Pitch; RoHS: N; PinCount: 8; Code_JEDEC: MO-229-WDED; ComponentLink1Description: LP3982 Datasheet; ComponentLink1URL: http://www.national.com/ds/LP/LP3982.pdf; ComponentLink2Description: LP3982 Web Page; ComponentLink2URL: http://www.national.com/pf/LP/LP3982.html; ComponentLink3Description: LDA08C Package Page; ComponentLink3URL: http://www.national.com/packaging/folders/lda08c.html
footprint LDA08C (PSON, 8-Leads, Body 2.5x3mm, Pitch 0.5mm, NSC Recommended)
pins: 1 OUT (power), 2 IN (power), 3 GND (power), 4 OUT (power), 5 NC, 6 CC, 7 ~{SD} (in), 8 ~{FLT} (oc), 9 DAP (power)

## LP3982ILDX-1.8/NOPB
designator U?
Micropower, Ultra Low-Dropout, Low-Noise, 300mA CMOS Regulator, 8-pin LLP, Pb-Free; PartNumber: LP3982ILDX-1.8/NOPB; Manufacturer: National Semiconductor; PackageTopMarking: XYTT*LNB; PowerWise: N; CompType: LDO IC; Published: 1-Mar-2010; DatasheetVersion: Mar-2006; PackageVersion: revB, Jun-2003; PackageReference: LDA08C; Publisher: Altium Limited; PackageDescription: LLP, Plastic, Dual, 2.5 x 3 x 0.75mm, 8 Lead, 0.5mm Pitch; Supplier 1: Digi-Key; Supplier Part Number 1: LP3982ILDX-1.8-ND; RoHS: Y; PinCount: 8; Code_JEDEC: MO-229-WDED; ComponentLink1Description: LP3982 Datasheet; ComponentLink1URL: http://www.national.com/ds/LP/LP3982.pdf; ComponentLink2Description: LP3982 Web Page; ComponentLink2URL: http://www.national.com/pf/LP/LP3982.html; ComponentLink3Description: LDA08C Package Page; ComponentLink3URL: http://www.national.com/packaging/folders/lda08c.html
footprint LDA08C (PSON, 8-Leads, Body 2.5x3mm, Pitch 0.5mm, NSC Recommended)
pins: 1 OUT (power), 2 IN (power), 3 GND (power), 4 OUT (power), 5 NC, 6 CC, 7 ~{SD} (in), 8 ~{FLT} (oc), 9 DAP (power)

## LP3982ILDX-3.0
designator U?
Micropower, Ultra Low-Dropout, Low-Noise, 300mA CMOS Regulator, 8-pin LLP; PartNumber: LP3982ILDX-3.0; Manufacturer: National Semiconductor; PackageTopMarking: XYTT*LTB; PowerWise: N; CompType: LDO IC; Published: 1-Mar-2010; DatasheetVersion: Mar-2006; PackageVersion: revB, Jun-2003; PackageReference: LDA08C; Publisher: Altium Limited; PackageDescription: LLP, Plastic, Dual, 2.5 x 3 x 0.75mm, 8 Lead, 0.5mm Pitch; RoHS: N; PinCount: 8; Code_JEDEC: MO-229-WDED; ComponentLink1Description: LP3982 Datasheet; ComponentLink1URL: http://www.national.com/ds/LP/LP3982.pdf; ComponentLink2Description: LP3982 Web Page; ComponentLink2URL: http://www.national.com/pf/LP/LP3982.html; ComponentLink3Description: LDA08C Package Page; ComponentLink3URL: http://www.national.com/packaging/folders/lda08c.html
footprint LDA08C (PSON, 8-Leads, Body 2.5x3mm, Pitch 0.5mm, NSC Recommended)
pins: 1 OUT (power), 2 IN (power), 3 GND (power), 4 OUT (power), 5 NC, 6 CC, 7 ~{SD} (in), 8 ~{FLT} (oc), 9 DAP (power)

## LP3982ILDX-3.0/NOPB
designator U?
Micropower, Ultra Low-Dropout, Low-Noise, 300mA CMOS Regulator, 8-pin LLP, Pb-Free; PartNumber: LP3982ILDX-3.0/NOPB; Manufacturer: National Semiconductor; PackageTopMarking: XYTT*LTB; PowerWise: N; CompType: LDO IC; Published: 1-Mar-2010; DatasheetVersion: Mar-2006; PackageVersion: revB, Jun-2003; PackageReference: LDA08C; Publisher: Altium Limited; PackageDescription: LLP, Plastic, Dual, 2.5 x 3 x 0.75mm, 8 Lead, 0.5mm Pitch; Supplier 1: Digi-Key; Supplier Part Number 1: LP3982ILDX-3.0-ND; RoHS: Y; PinCount: 8; Code_JEDEC: MO-229-WDED; ComponentLink1Description: LP3982 Datasheet; ComponentLink1URL: http://www.national.com/ds/LP/LP3982.pdf; ComponentLink2Description: LP3982 Web Page; ComponentLink2URL: http://www.national.com/pf/LP/LP3982.html; ComponentLink3Description: LDA08C Package Page; ComponentLink3URL: http://www.national.com/packaging/folders/lda08c.html
footprint LDA08C (PSON, 8-Leads, Body 2.5x3mm, Pitch 0.5mm, NSC Recommended)
pins: 1 OUT (power), 2 IN (power), 3 GND (power), 4 OUT (power), 5 NC, 6 CC, 7 ~{SD} (in), 8 ~{FLT} (oc), 9 DAP (power)

## LP3982ILDX-3.3
designator U?
Micropower, Ultra Low-Dropout, Low-Noise, 300mA CMOS Regulator, 8-pin LLP; PartNumber: LP3982ILDX-3.3; Manufacturer: National Semiconductor; PackageTopMarking: XYTT*LUB; PowerWise: N; CompType: LDO IC; Published: 1-Mar-2010; DatasheetVersion: Mar-2006; PackageVersion: revB, Jun-2003; PackageReference: LDA08C; Publisher: Altium Limited; PackageDescription: LLP, Plastic, Dual, 2.5 x 3 x 0.75mm, 8 Lead, 0.5mm Pitch; RoHS: N; PinCount: 8; Code_JEDEC: MO-229-WDED; ComponentLink1Description: LP3982 Datasheet; ComponentLink1URL: http://www.national.com/ds/LP/LP3982.pdf; ComponentLink2Description: LP3982 Web Page; ComponentLink2URL: http://www.national.com/pf/LP/LP3982.html; ComponentLink3Description: LDA08C Package Page; ComponentLink3URL: http://www.national.com/packaging/folders/lda08c.html
footprint LDA08C (PSON, 8-Leads, Body 2.5x3mm, Pitch 0.5mm, NSC Recommended)
pins: 1 OUT (power), 2 IN (power), 3 GND (power), 4 OUT (power), 5 NC, 6 CC, 7 ~{SD} (in), 8 ~{FLT} (oc), 9 DAP (power)

## LP3982ILDX-3.3/NOPB
designator U?
Micropower, Ultra Low-Dropout, Low-Noise, 300mA CMOS Regulator, 8-pin LLP, Pb-Free; PartNumber: LP3982ILDX-3.3/NOPB; Manufacturer: National Semiconductor; PackageTopMarking: XYTT*LUB; PowerWise: N; CompType: LDO IC; Published: 1-Mar-2010; DatasheetVersion: Mar-2006; PackageVersion: revB, Jun-2003; PackageReference: LDA08C; Publisher: Altium Limited; PackageDescription: LLP, Plastic, Dual, 2.5 x 3 x 0.75mm, 8 Lead, 0.5mm Pitch; Supplier 1: Digi-Key; Supplier Part Number 1: LP3982ILDX-3.3-ND; RoHS: Y; PinCount: 8; Code_JEDEC: MO-229-WDED; ComponentLink1Description: LP3982 Datasheet; ComponentLink1URL: http://www.national.com/ds/LP/LP3982.pdf; ComponentLink2Description: LP3982 Web Page; ComponentLink2URL: http://www.national.com/pf/LP/LP3982.html; ComponentLink3Description: LDA08C Package Page; ComponentLink3URL: http://www.national.com/packaging/folders/lda08c.html
footprint LDA08C (PSON, 8-Leads, Body 2.5x3mm, Pitch 0.5mm, NSC Recommended)
pins: 1 OUT (power), 2 IN (power), 3 GND (power), 4 OUT (power), 5 NC, 6 CC, 7 ~{SD} (in), 8 ~{FLT} (oc), 9 DAP (power)

## LP3982ILDX-ADJ
designator U?
Micropower, Ultra Low-Dropout, Low-Noise, 300mA CMOS Regulator, 8-pin LLP; PartNumber: LP3982ILDX-ADJ; Manufacturer: National Semiconductor; PackageTopMarking: XYTT*LVB; PowerWise: N; CompType: LDO IC; Published: 1-Mar-2010; DatasheetVersion: Mar-2006; PackageVersion: revB, Jun-2003; PackageReference: LDA08C; Publisher: Altium Limited; PackageDescription: LLP, Plastic, Dual, 2.5 x 3 x 0.75mm, 8 Lead, 0.5mm Pitch; RoHS: N; PinCount: 8; Code_JEDEC: MO-229-WDED; ComponentLink1Description: LP3982 Datasheet; ComponentLink1URL: http://www.national.com/ds/LP/LP3982.pdf; ComponentLink2Description: LP3982 Web Page; ComponentLink2URL: http://www.national.com/pf/LP/LP3982.html; ComponentLink3Description: LDA08C Package Page; ComponentLink3URL: http://www.national.com/packaging/folders/lda08c.html
footprint LDA08C (PSON, 8-Leads, Body 2.5x3mm, Pitch 0.5mm, NSC Recommended)
pins: 1 OUT (power), 2 IN (power), 3 GND (power), 4 OUT (power), 5 SET, 6 CC, 7 ~{SD} (in), 8 ~{FLT} (oc), 9 DAP (power)

## LP3982ILDX-ADJ/NOPB
designator U?
Micropower, Ultra Low-Dropout, Low-Noise, 300mA CMOS Regulator, 8-pin LLP, Pb-Free; PartNumber: LP3982ILDX-ADJ/NOPB; Manufacturer: National Semiconductor; PackageTopMarking: XYTT*LVB; PowerWise: N; CompType: LDO IC; Published: 1-Mar-2010; DatasheetVersion: Mar-2006; PackageVersion: revB, Jun-2003; PackageReference: LDA08C; Publisher: Altium Limited; PackageDescription: LLP, Plastic, Dual, 2.5 x 3 x 0.75mm, 8 Lead, 0.5mm Pitch; Supplier 1: Digi-Key; Supplier Part Number 1: LP3982ILDX-ADJ-ND; RoHS: Y; PinCount: 8; Code_JEDEC: MO-229-WDED; ComponentLink1Description: LP3982 Datasheet; ComponentLink1URL: http://www.national.com/ds/LP/LP3982.pdf; ComponentLink2Description: LP3982 Web Page; ComponentLink2URL: http://www.national.com/pf/LP/LP3982.html; ComponentLink3Description: LDA08C Package Page; ComponentLink3URL: http://www.national.com/packaging/folders/lda08c.html
footprint LDA08C (PSON, 8-Leads, Body 2.5x3mm, Pitch 0.5mm, NSC Recommended)
pins: 1 OUT (power), 2 IN (power), 3 GND (power), 4 OUT (power), 5 SET, 6 CC, 7 ~{SD} (in), 8 ~{FLT} (oc), 9 DAP (power)